# Altium integrated library MGTF.IntLib: 1 symbol
Pins are listed as number, name and electrical type; pins without a type are passive.

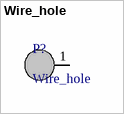
[diagram p0: symbol Wire_hole]

## Wire_hole
designator P?
МГТФ 0.35
footprint MGTF_fat
footprint MGTF_normal
footprint MGTF_thin
pins: 1